# EAGLE library part SWITCH_4 (library Public)
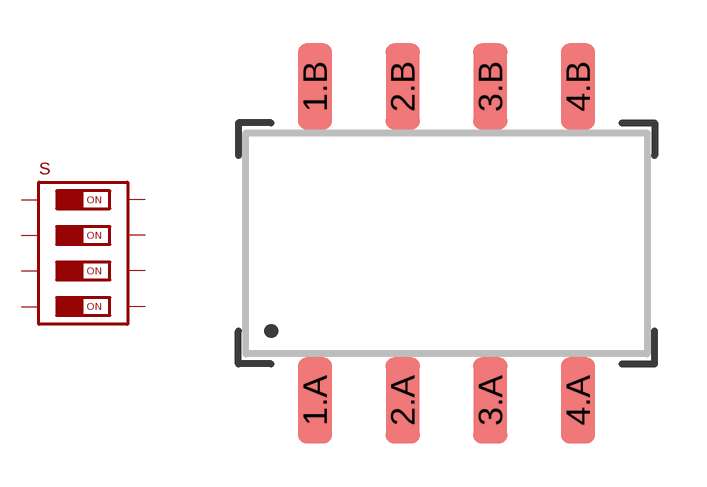
[diagram p233: symbol with the pads of CFS-04XX-XB; footprint CFS-04XX-XB]

Designator prefix S

## SWITCH_4(CFS)  [CFS-04XX-XB]
1.A  1_OFF
1.B  1_ON
2.A  2_OFF
2.B  2_ON
3.A  3_OFF
3.B  3_ON
4.A  4_OFF
4.B  4_ON

## Footprint CFS-04XX-XB (pad centres in mm)
smd 1 x 2.5: 1.A -3.81,-4.55; 1.B -3.81,4.55; 2.A -1.27,-4.55; 2.B -1.27,4.55; 3.A 1.27,-4.55; 3.B 1.27,4.55; 4.A 3.81,-4.55; 4.B 3.81,4.55